# Altium footprint library 470uF Electrolytic Cap.PcbLib: 1 footprints
Each footprint in its own frame and in the unit in brackets; x right, y up, seen from the top. Pads: shape width x height; smd on the part's side, far side on the other; paste and mask are expansions set on the pad; w line width, h text height; cw(c..) or ccw(c..) is an arc to the next point about the centre after c.
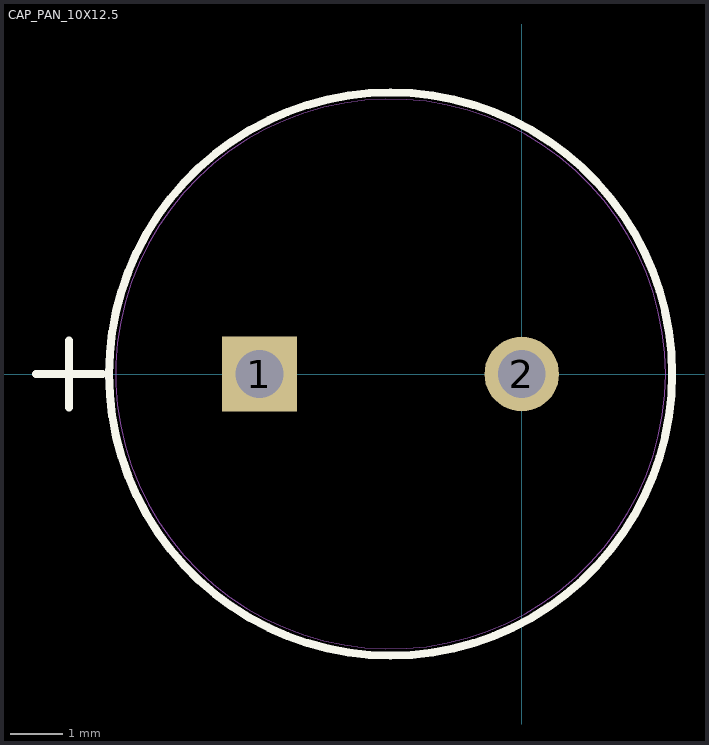
[diagram p0: the footprint, top view; thin cyan lines are the x and y axes]

## CAP_PAN_10X12.5 [mil]
pads (2):
  rect 56x56 / inner round 60 / far side rect 56x56 hole 36 paste+0 mask+0: 1(-197,0)
  round 56 / inner round 60 / far side round 56 hole 36 paste+0 mask+0: 2(0,0)
Top Overlay:
  circle w6: c-98.5,0 r211.5
  lines w6: -365,0 -315,0 ; -340,-25 -340,25
Mechanical 13:
  circle w0: c-98.5,0 r206.5
  lines w1: -365,0 -315,0 ; -340,-25 -340,25
3D body: height 10, standoff 0, extent 0,0 10,10
3D body "PCAP_10x12_5-THRU-ELECT.step": height 490, standoff -190, extent -294.01,-194 100,200